# EAGLE library part 573 (library eecs346-parts)
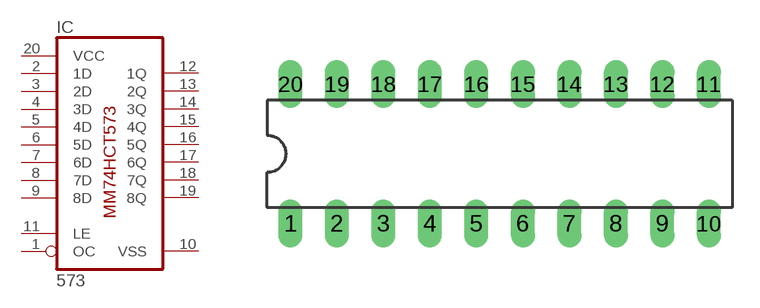
[diagram p1: symbol with the pads of DIL20; footprint DIL20]

Designator prefix IC

## 573  [DIL20]
1  OC  in
2  1D  in
3  2D  in
4  3D  in
5  4D  in
6  5D  in
7  6D  in
8  7D  in
9  8D  in
10  VSS
11  LE  in
12  1Q  hiz
13  2Q  hiz
14  3Q  hiz
15  4Q  hiz
16  5Q  hiz
17  6Q  hiz
18  7Q  hiz
19  8Q  hiz
20  VCC

## Footprint DIL20 (pad centres in mm)
Dual In Line Package
drill 0.813 long: 1 -11.43,-3.81; 2 -8.89,-3.81; 3 -6.35,-3.81; 4 -3.81,-3.81; 5 -1.27,-3.81; 6 1.27,-3.81; 7 3.81,-3.81; 8 6.35,-3.81; 9 8.89,-3.81; 10 11.43,-3.81; 11 11.43,3.81; 12 8.89,3.81; 13 6.35,3.81; 14 3.81,3.81; 15 1.27,3.81; 16 -1.27,3.81; 17 -3.81,3.81; 18 -6.35,3.81; 19 -8.89,3.81; 20 -11.43,3.81